# Altium footprint library CAPMP7344X32N.PcbLib: 1 footprints
Each footprint in its own frame and in the unit in brackets; x right, y up, seen from the top. Pads: shape width x height; smd on the part's side, far side on the other; paste and mask are expansions set on the pad; w line width, h text height; cw(c..) or ccw(c..) is an arc to the next point about the centre after c.
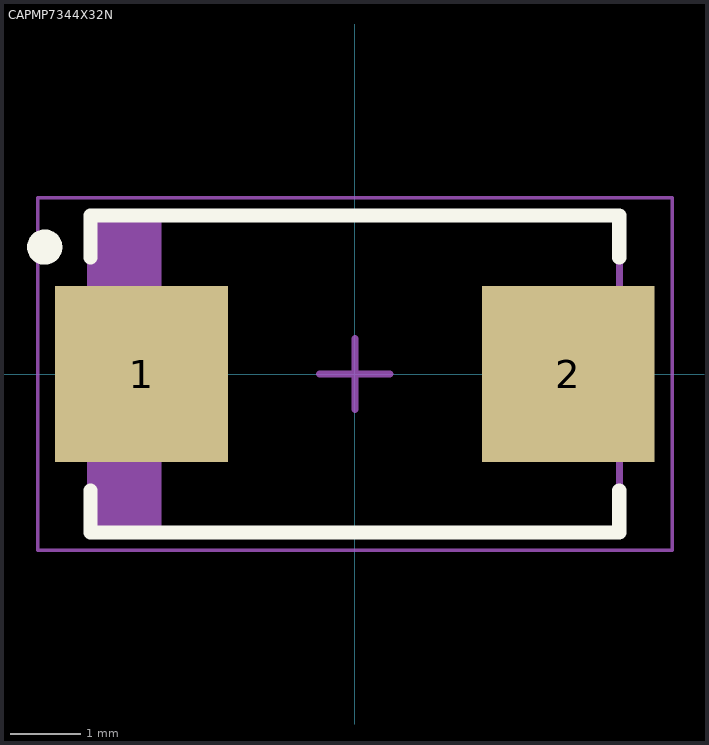
[diagram p0: the footprint, top view; thin cyan lines are the x and y axes]

## CAPMP7344X32N [mm] "Molded Capacitor, 2-Leads, Body 7,30x4,35mm, IPC Medium Density"
height 3.2
pads (2):
  rect 2.45x2.5 smd: 1(-3.025,0) 2(3.025,0)
Top Overlay:
  circle w0.25: c-4.4,1.8 r0.125
  lines w0.2: -3.75,-1.65 -3.75,-2.25 3.75,-2.25 3.75,-1.65 ; -3.75,1.65 -3.75,2.25 3.75,2.25 3.75,1.65
Mechanical 13:
  rectangle: -3.75,-2.25 -2.741,2.25
  lines w0.1: -3.75,-2.25 3.75,-2.25 3.75,2.25 -3.75,2.25 -3.75,-2.25
Mechanical 15:
  lines w0.05: -4.5,-2.5 4.5,-2.5 4.5,2.5 -4.5,2.5 -4.5,-2.5
  lines w0.1: -0.5,0 0.5,0 ; 0,-0.5 0,0.5
3D body "D__D90.stp": height 3.02, standoff 0.02, extent -3.704,-2.225 3.696,2.225